# Altium footprint library CAPAE430X550N.PcbLib: 1 footprints
Each footprint in its own frame and in the unit in brackets; x right, y up, seen from the top. Pads: shape width x height; smd on the part's side, far side on the other; paste and mask are expansions set on the pad; w line width, h text height; cw(c..) or ccw(c..) is an arc to the next point about the centre after c.
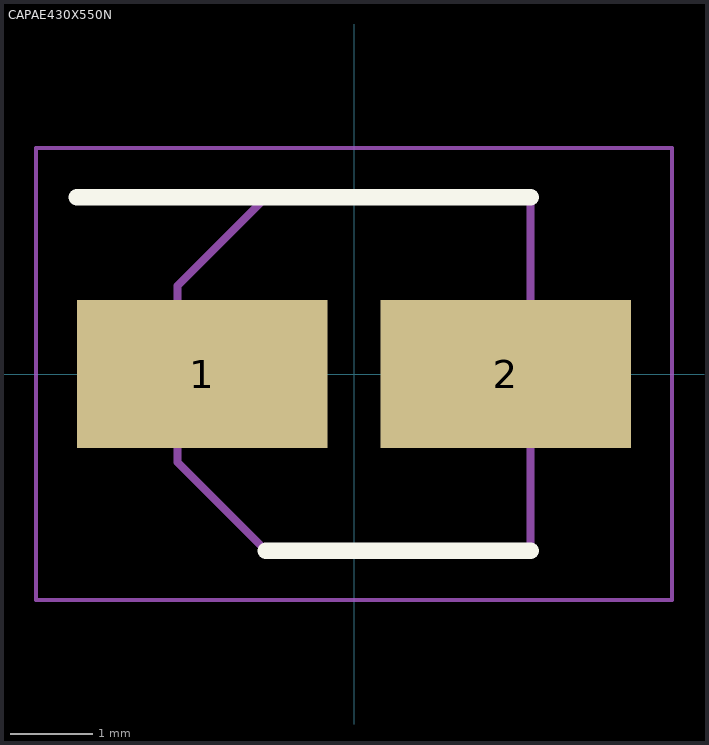
[diagram p0: the footprint, top view; thin cyan lines are the x and y axes]

## CAPAE430X550N [mm]
pads (2):
  rect 3.05x1.8 smd: 1(-1.85,0) 2(1.85,0)
Top Overlay:
  lines w0.2: -3.375,2.15 2.15,2.15 ; -1.075,-2.15 2.15,-2.15
Mechanical 15:
  lines w0.1: -2.15,-1.075 -1.075,-2.15 2.15,-2.15 2.15,2.15 -1.075,2.15 -2.15,1.075 -2.15,-1.075
Mechanical 20:
  lines w0.05: -3.875,-2.75 -3.875,2.75 3.875,2.75 3.875,-2.75 -3.875,-2.75
3D body "865080340001.stp": height 5.5, standoff 0, extent -2.65,-2.25 2.65,2.25
3D body "865080340001.stp": height 5.8, standoff -4.65, extent -10,-3.376 10,3.376